# Altium footprint library 1.44寸串口封装_14pin_99SE.PcbLib: 1 footprints
Each footprint in its own frame and in the unit in brackets; x right, y up, seen from the top. Pads: shape width x height; smd on the part's side, far side on the other; paste and mask are expansions set on the pad; w line width, h text height; cw(c..) or ccw(c..) is an arc to the next point about the centre after c.
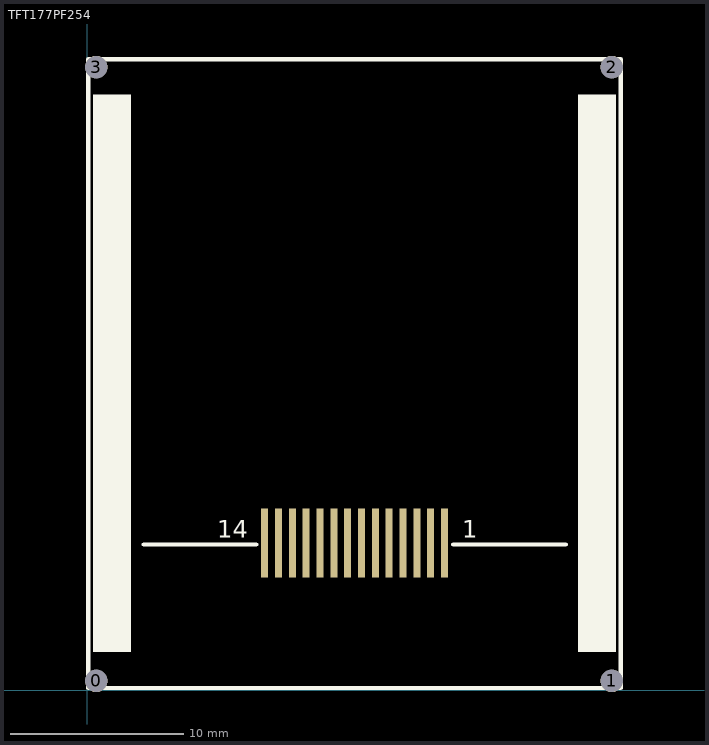
[diagram p0: the footprint, top view; thin cyan lines are the x and y axes]

## TFT177PF254 [mm]
pads (18):
  round 1.3 hole 1.3 unplated: 0(0.511,0.54) 1(30.329,0.54) 2(30.329,36.046) 3(0.511,36.046)
  rect 0.4x4 smd: 1(20.652,8.514) 2(19.852,8.514) 3(19.052,8.514) 4(18.252,8.514) 5(17.452,8.514) 6(16.652,8.514) 7(15.852,8.514) 8(15.052,8.514) 9(14.252,8.514) 10(13.452,8.514) 11(12.652,8.514) 12(11.852,8.514) 13(11.052,8.514) 14(10.252,8.514)
Top Overlay:
  rectangle: 0.317,2.215 2.517,34.447
  rectangle: 28.384,2.215 30.584,34.447
  lines w0.254: 3.254,8.432 9.756,8.432 ; 21.161,8.432 27.663,8.432 ; 0.053,0.132 30.853,0.132 30.853,36.492 0.053,36.492 0.053,0.132
  text "1" at 21.669,8.819 h1.02
  text "14" at 7.521,8.819 h1.02